# Altium schematic symbol library MiniRoverShield-rescue.SchLib: 5 symbols
Pins are listed as number, name and electrical type; pins without a type are passive.

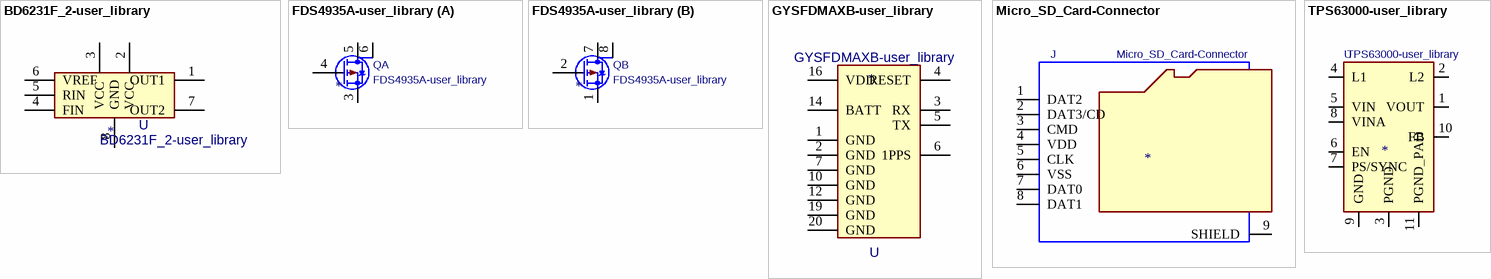
[diagram p0: symbols BD6231F_2-user_library to TPS63000-user_library]

## BD6231F_2-user_library
designator U  value BD6231F_2-user_library
pins: 1 OUT1, 2 VCC, 3 VCC, 4 FIN, 5 RIN, 6 VREF, 7 OUT2, 8 GND

## FDS4935A-user_library
designator Q  value FDS4935A-user_library
part A pins: 3 S, 4 G, 5 D, 6 D
part B pins: 1 S, 2 4G, 7 D, 8 D

## GYSFDMAXB-user_library
designator U  value GYSFDMAXB-user_library
pins: 1 GND, 2 GND, 3 RX, 4 RESET, 5 TX, 6 1PPS, 7 GND, 10 GND, 12 GND, 14 BATT, 16 VDD, 19 GND, 20 GND

## Micro_SD_Card-Connector
designator J  value Micro_SD_Card-Connector
pins: 1 DAT2, 2 DAT3/CD, 3 CMD, 4 VDD, 5 CLK, 6 VSS, 7 DAT0, 8 DAT1, 9 SHIELD

## TPS63000-user_library
designator U  value TPS63000-user_library
Footprint: Package_SON:Texas_S-PWSON-N10_ThermalVias
footprint Texas_S-PWSON-N10_ThermalVias
pins: 1 VOUT, 2 L2, 3 PGND, 4 L1, 5 VIN, 6 EN, 7 PS/SYNC, 8 VINA, 9 GND, 10 FB, 11 PGND_PAD